# EAGLE library part DPDT (library custom-connectors)
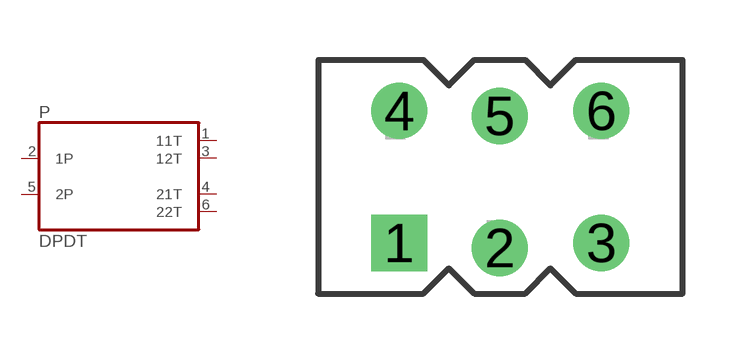
[diagram p26: symbol with the pads of 2X3_JS202011CQN; footprint 2X3_JS202011CQN]

Designator prefix P

## DPDT  [2X3_JS202011CQN]
1  11T  in
2  1P
3  12T  in
4  21T  in
5  2P
6  22T  out

## Footprint 2X3_JS202011CQN (pad centres in mm)
drill 0.9 square: 1 -2.439,-1.579
drill 0.9: 2 0.071,-1.706; 3 2.611,-1.579; 4 -2.439,1.722; 5 0.071,1.595; 6 2.611,1.722